# Altium schematic symbol library CONN_4Pin_Mate-n-Lock.SchLib: 1 symbol
Pins are listed as number, name and electrical type; pins without a type are passive.

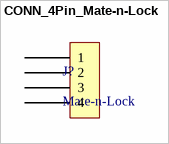
[diagram p0: symbol CONN_4Pin_Mate-n-Lock]

## CONN_4Pin_Mate-n-Lock
designator J?, comment Mate-n-Lock
4 Pin Connector
footprint CONN_4Pin_Mate-n-Lock (Footprint not found)
pins: 1, 2, 3, 4